# Altium footprint library 整流桥.PcbLib: 11 footprints
Each footprint in its own frame and in the unit in brackets; x right, y up, seen from the top. Pads: shape width x height; smd on the part's side, far side on the other; paste and mask are expansions set on the pad; w line width, h text height; cw(c..) or ccw(c..) is an arc to the next point about the centre after c.
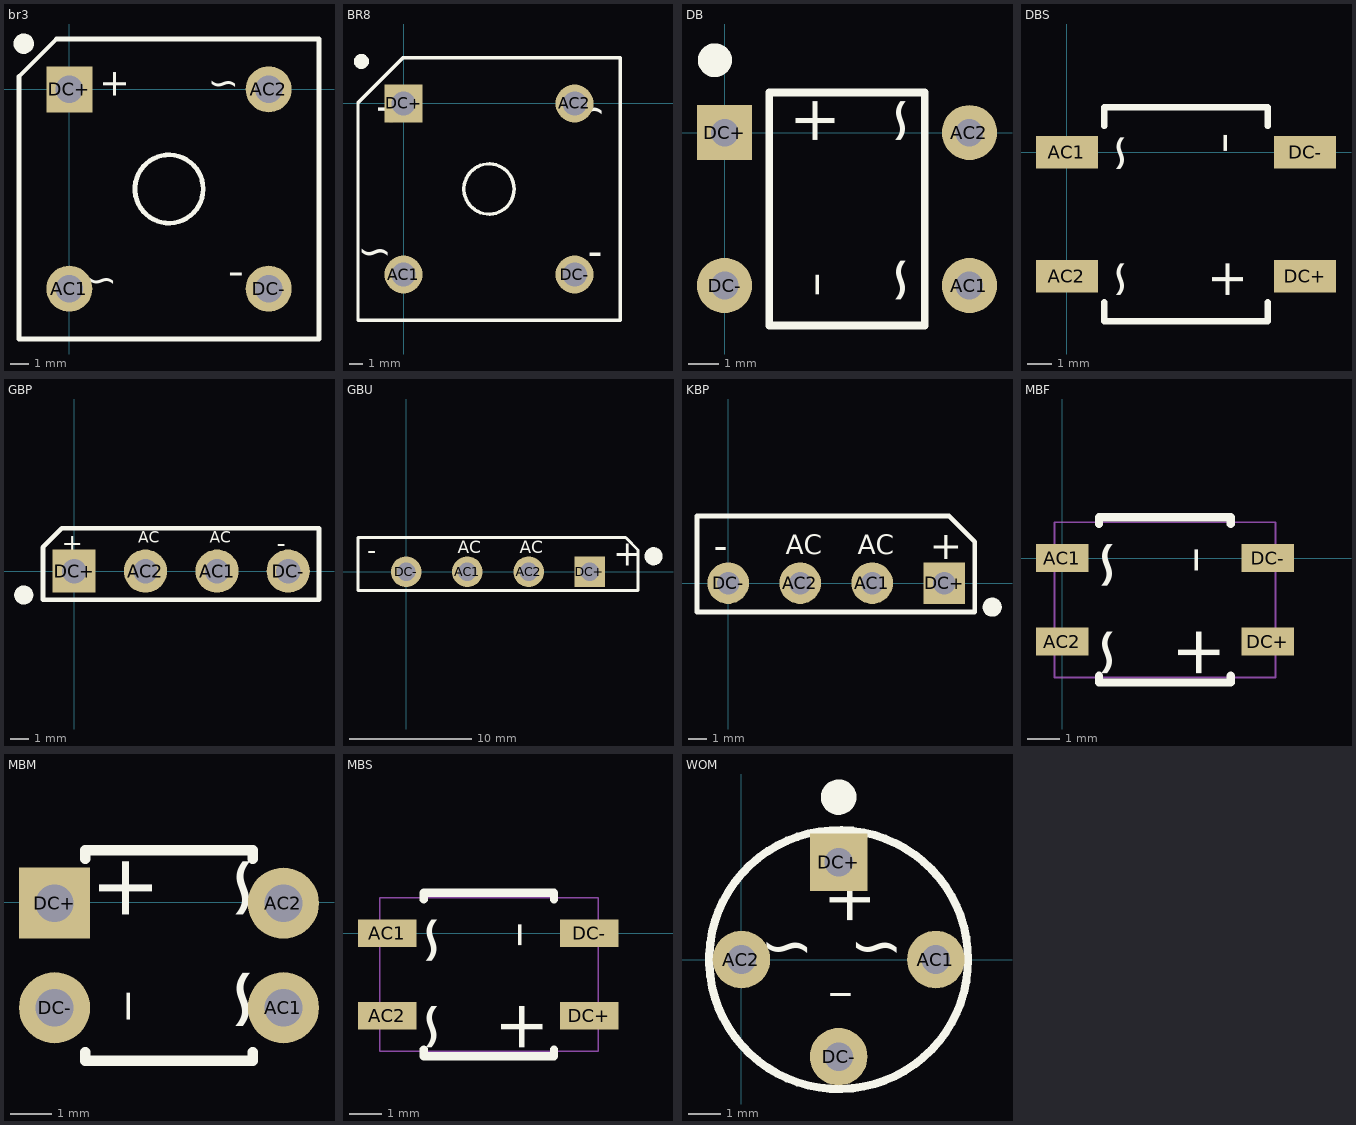
[diagram p0: the footprints below, top view; thin cyan lines are the x and y axes]

## br3 [mm]
pads (4):
  round 2.5 hole 1.5: AC1(0,-10.8) AC2(10.8,0) DC-(10.8,-10.8)
  rect 2.5x2.5 hole 1.5: DC+(0,0)
Top Overlay:
  circle w0.254: c5.4,-5.4 r1.85
  circle w0.6: c-2.474,2.474 r0.254
  lines w0.254: -2.728,-13.528 -2.728,0.696 -0.696,2.728 13.528,2.728 13.528,-13.528 -2.728,-13.528
  text "+" at 1.336,-0.574 h2.54
  text "-" at 9.464,-11.242 h3.05
  text "~" at 9.21,-0.828 h2.54
  text "~" at 2.606,-11.496 h2.54
3D body "br3-.STEP": height 6, standoff -3.5, extent -2.667,-13.461 13.333,2.539

## BR8 [mm]
pads (4):
  round 2.8 hole 1.8: AC1(0,-12.6) AC2(12.6,0) DC-(12.6,-12.6)
  rect 2.8x2.8 hole 1.8: DC+(0,0)
Top Overlay:
  circle w0.6: c-3.098,3.098 r0.254
  circle w0.254: c6.3,-6.3 r1.85
  lines w0.254: -3.352,-15.952 15.952,-15.952 15.952,3.352 -0.05,3.352 -3.352,0.05 -3.352,-15.952
  text "~" at -0.812,-12.65 h3.81
  text "~" at 14.936,-2.236 h3.81
  text "-" at 14.682,-12.65 h3.81
  text "+" at -2.59,-1.728 h3.81
3D body "BR8-.STEP": height 7.1, standoff -3.5, extent -3.1,-15.852 15.8,3.048

## DB [mm]
pads (4):
  round 1.8 hole 0.9: AC1(8.008,-5) AC2(8.008,0) DC-(0,-5)
  rect 1.8x1.8 hole 0.9: DC+(0,0)
Top Overlay:
  circle w0.6: c-0.314,2.366 r0.254
  lines w0.254: 1.464,-6.31 1.464,1.31 6.544,1.31 6.544,-6.31 1.464,-6.31
  text "+" at 1.845,-0.468 h2.54
  text "-" at 1.845,-5.421 h3.05
  text "~" at 4.639,-0.468 h2.54
  text "~" at 4.639,-5.675 h2.54
3D body "DB-.STEP": height 3.2, standoff -3.01, extent -0.49,-6.79 8.382,1.71

## DBS [mm]
height 12.3
pads (4):
  rect 2.5x1.3 smd: AC1(0,0) AC2(0,-5) DC+(9.6,-5) DC-(9.6,0)
Top Overlay:
  lines w0.254: 1.498,-6.056 1.498,-6.818 8.102,-6.818 8.102,-6.056 ; 1.498,1.056 1.498,1.818 8.102,1.818 8.102,1.056
  text "+" at 7.594,-4.278 h2.54
  text "-" at 7.594,0.802 h3.05
  text "~" at 3.276,-4.278 h2.54
  text "~" at 3.276,0.802 h2.54
3D body "DBS-.STEP": height 3.1, standoff -0.03, extent -0.351,-6.731 9.749,1.769

## GBP [mm]
pads (4):
  round 2.3 hole 1.3: AC1(7.61,0) AC2(3.8,0) DC-(11.4,0)
  rect 2.3x2.3 hole 1.3: DC+(0,0)
Top Overlay:
  circle w0.508: c-2.682,-1.27 r0.254
  lines w0.254: -1.66,-1.524 13.04,-1.524 13.04,2.286 -0.65,2.286 -1.66,1.276 -1.66,-1.524
  text "AC" at 3.414,1.524 h0.6
  text "-" at 10.78,1.016 h1
  text "+" at -0.65,1.016 h1
  text "AC" at 7.224,1.524 h0.6
3D body "GBP-.STEP": height 12.8, standoff -3.6, extent -1.385,-1.122 12.815,1.778

## GBU [mm]
pads (4):
  round 2.5 hole 1.5: AC1(5,0) AC2(10,0) DC-(0,0)
  rect 2.5x2.5 hole 1.5: DC+(15,0)
Top Overlay:
  circle w0.762: c20.2,1.27 r0.359
  lines w0.254: -3.93,-1.524 -3.93,2.794 -0.922,2.794 17.914,2.794 18.93,1.778 18.93,-1.524 -3.93,-1.524
  text "-" at -3.168,1.016 h1.52
  text "+" at 16.898,0.508 h2.03
  text "AC" at 4.198,1.524 h1.02
  text "AC" at 9.278,1.524 h1.02
3D body "GBU-.STEP": height 20.8, standoff -4, extent -3.507,-1.087 18.493,2.413

## KBP [mm]
pads (4):
  round 2.2 hole 1.2: AC1(7.62,0) AC2(3.81,0) DC-(0,0)
  rect 2.2x2.2 hole 1.2: DC+(11.43,0)
Top Overlay:
  circle w0.508: c13.97,-1.27 r0.254
  lines w0.254: -1.65,-1.524 -1.65,3.55 11.69,3.55 13.05,2.19 13.05,-1.524 -1.65,-1.524
  text "+" at 10.668,1.27 h1.5
  text "-" at -0.762,1.27 h1.5
  text "AC" at 3.048,1.524 h1.02
  text "AC" at 6.858,1.524 h1.02
3D body "KBP-.STEP": height 11.7, standoff -3.1, extent -1.635,-1.244 13.065,3.556

## MBF [mm]
height 12.3
pads (4):
  rect 1.6x0.85 smd: AC1(0,0) AC2(0,-2.54) DC+(6.254,-2.54) DC-(6.254,0)
Top Overlay:
  lines w0.254: 1.12,-3.581 1.12,-3.785 5.134,-3.785 5.134,-3.581 ; 1.12,1.041 1.12,1.245 5.134,1.245 5.134,1.041
  text "+" at 5.286,-2.032 h2.54
  text "-" at 5.286,0.381 h3.05
  text "~" at 2.492,-2.032 h2.54
  text "~" at 2.492,0.635 h2.54
Mechanical 13:
  lines w0.05: -0.236,-3.633 -0.236,1.092 6.49,1.092 6.49,-3.633 -0.236,-3.633
3D body "MBF-.STEP": height 1.6, standoff -0.03, extent -0.452,-3.556 6.548,1.144

## MBM [mm]
pads (4):
  round 1.7 hole 0.9: AC1(8.198,-2.52) AC2(8.198,-0.02) DC-(2.724,-2.52)
  rect 1.7x1.7 hole 0.9: DC+(2.724,-0.02)
Top Overlay:
  lines w0.254: 3.454,-3.581 3.454,-3.785 7.468,-3.785 7.468,-3.581 ; 3.454,1.041 3.454,1.245 7.468,1.245 7.468,1.041
  text "+" at 3.302,-0.508 h2.54
  text "-" at 3.302,-2.921 h3.05
  text "~" at 6.096,-0.508 h2.54
  text "~" at 6.096,-3.175 h2.54
3D body "MBM-.STEP": height 2.6, standoff -3.11, extent 2.21,-3.683 8.458,1.117

## MBS [mm]
height 12.3
pads (4):
  rect 1.8x0.85 smd: AC1(2.842,0) AC2(2.842,-2.54) DC+(9.065,-2.54) DC-(9.065,0)
Top Overlay:
  lines w0.254: 3.962,-3.581 3.962,-3.785 7.976,-3.785 7.976,-3.581 ; 3.962,1.041 3.962,1.245 7.976,1.245 7.976,1.041
  text "~" at 5.334,0.635 h2.54
  text "~" at 5.334,-2.032 h2.54
  text "-" at 8.128,0.381 h3.05
  text "+" at 8.128,-2.032 h2.54
Mechanical 13:
  lines w0.05: 2.606,-3.633 2.606,1.092 9.332,1.092 9.332,-3.633 2.606,-3.633
3D body "MBS-.STEP": height 2.6, standoff -0.03, extent 2.569,-3.683 9.369,1.117

## WOM [mm]
pads (4):
  round 1.8 hole 0.9: AC1(6.08,0) AC2(0,0) DC-(3.04,-3.04)
  rect 1.8x1.8 hole 0.9: DC+(3.04,3.04)
Top Overlay:
  circle w0.6: c3.04,5.08 r0.254
  circle w0.254: c3.04,0 r4.05
  text "+" at 2.278,1.016 h2.54
  text "-" at 3.548,-2.286 h3.05
  text "~" at 5.072,-0.762 h2.54
  text "~" at 2.278,-0.762 h2.54
3D body "WOM-.STEP": height 5.1, standoff -3.5, extent -1.115,-4.05 6.985,4.05